# EAGLE library part CD4049UBPW (library dawa_v4.0)
CMOS Hex Buffer/Converters
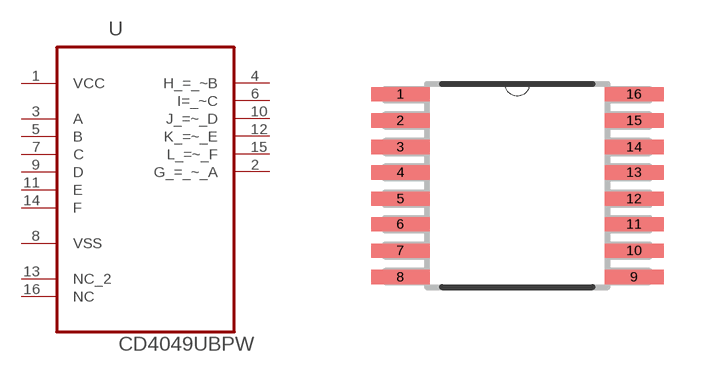
[diagram p2: symbol with the pads of SOP65P640X120-16N; footprint SOP65P640X120-16N]

Designator prefix U

## CD4049UBPW (MPN: CD4049UBPW; OC_FARNELL: 1740863; OC_NEWARK: 50R5061; PACKAGE: TSSOP-16; SUPPLIER: Texas Instruments)  [SOP65P640X120-16N]
1  VCC  pwr
2  G_=_~_A  out
3  A  in
4  H_=_~B  out
5  B  in
6  I=_~C  out
7  C  in
8  VSS  pwr
9  D  in
10  J_=~_D  out
11  E  in
12  K_=~_E  out
13  NC_2  nc
14  F  in
15  L_=~_F  out
16  NC  nc

## Footprint SOP65P640X120-16N (pad centres in mm)
smd 1.473 x 0.356: 1 -2.921,2.286; 2 -2.921,1.626; 3 -2.921,0.965; 4 -2.921,0.33; 5 -2.921,-0.33; 6 -2.921,-0.965; 7 -2.921,-1.626; 8 -2.921,-2.286; 9 2.921,-2.286; 10 2.921,-1.626; 11 2.921,-0.965; 12 2.921,-0.33; 13 2.921,0.33; 14 2.921,0.965; 15 2.921,1.626; 16 2.921,2.286